# Altium schematic symbol library RAPC712TRP22X.SchLib: 1 symbol
Pins are listed as number, name and electrical type; pins without a type are passive.

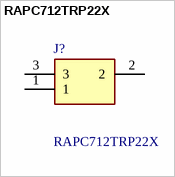
[diagram p0: symbol RAPC712TRP22X]

## RAPC712TRP22X
designator J?
DC Power Connectors Right Angle PC Mount DC Power Jack, pin size 0.100"(2.5mm), packaged in a 22" reel; Manufacturer_Name: Switchcraft; Geometry.Height: 11.176mm; Mouser Part Number: 502-RAPC712TRP22X; Mouser Price/Stock: https://www.mouser.co.uk/ProductDetail/Switchcraft/RAPC712TRP22X?qs=vHuUswq2%252BszirK%2F7pueKKA%3D%3D; Manufacturer_Part_Number: RAPC712TRP22X; Datasheet Link: https://www.mouser.co.uk/datasheet/2/393/rapc712x_cd-2943016.pdf
footprint RAPC712TRP22X
pins: 1, 2, 3